# Altium footprint library ANT_SMD-SPE-GP_1575.PcbLib: 1 footprints
Each footprint in its own frame and in the unit in brackets; x right, y up, seen from the top. Pads: shape width x height; smd on the part's side, far side on the other; paste and mask are expansions set on the pad; w line width, h text height; cw(c..) or ccw(c..) is an arc to the next point about the centre after c.
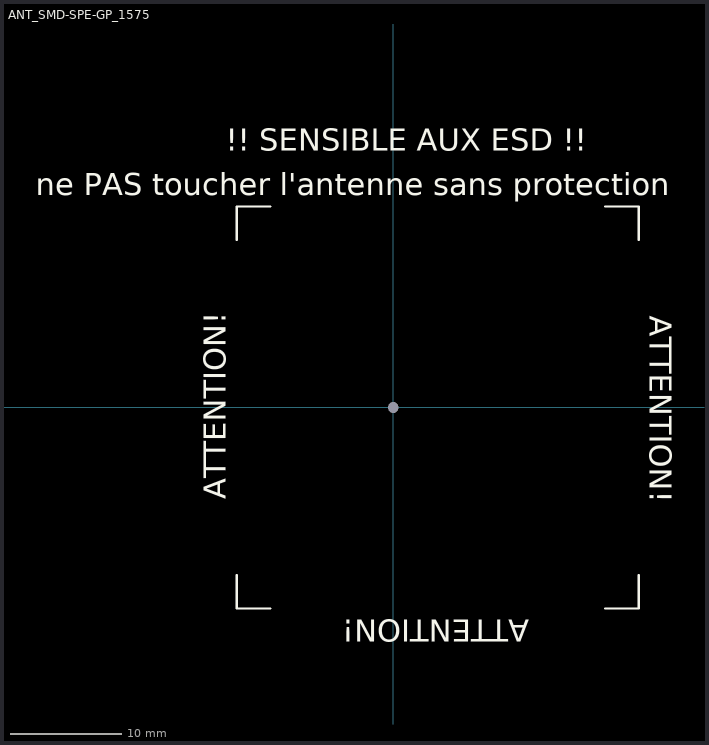
[diagram p0: the footprint, top view; thin cyan lines are the x and y axes]

## ANT_SMD-SPE-GP_1575 [mm]
pads (1):
  round 0 / inner round 2.5 / far side round 2.5 hole 0.95: 1(0,0)
Top Overlay:
  lines w0.2: -14,-15 -14,-18 -11,-18 ; -14,15 -14,18 -11,18 ; 19,-18 22,-18 22,-15 ; 19,18 22,18 22,15
  text "ne PAS toucher l'antenne sans protection" at -32,19 h2
  text "!! SENSIBLE AUX ESD !!" at -15,23 h2
  text "ATTENTION!" at 23,8.2 h2
  text "ATTENTION!" at 12.2,-19 h2
  text "ATTENTION!" at -15,-8.2 h2
3D body: height 3, standoff 0, extent -13.3,-17.5 21.7,17.5